# EAGLE library part SN65HVD51 (library SN65HVD51 1)
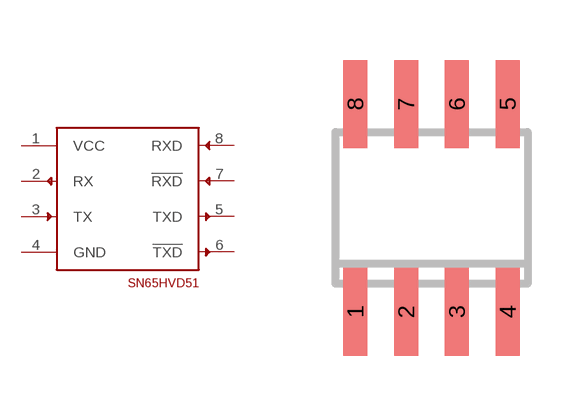
[diagram p0: symbol with the pads of SO-08; footprint SO-08]

Designator prefix -

## SN65HVD51  [SO-08]
1  VCC
2  RX
3  TX
4  GND
5  TXD
6  !TXD
7  !RXD
8  RXD

## Footprint SO-08 (pad centres in mm)
D (R-PDSO-G8) Plastic Small Outline Package Source: http://focus.ti.com/lit/ds/symlink/sn65als176.pdf
smd 0.6 x 2.2: 1 -1.905,-2.6; 2 -0.635,-2.6; 3 0.635,-2.6; 4 1.905,-2.6; 5 1.905,2.6; 6 0.635,2.6; 7 -0.635,2.6; 8 -1.905,2.6